# Altium footprint library MOLEX_0532610271.PcbLib: 1 footprints
Each footprint in its own frame and in the unit in brackets; x right, y up, seen from the top. Pads: shape width x height; smd on the part's side, far side on the other; paste and mask are expansions set on the pad; w line width, h text height; cw(c..) or ccw(c..) is an arc to the next point about the centre after c.
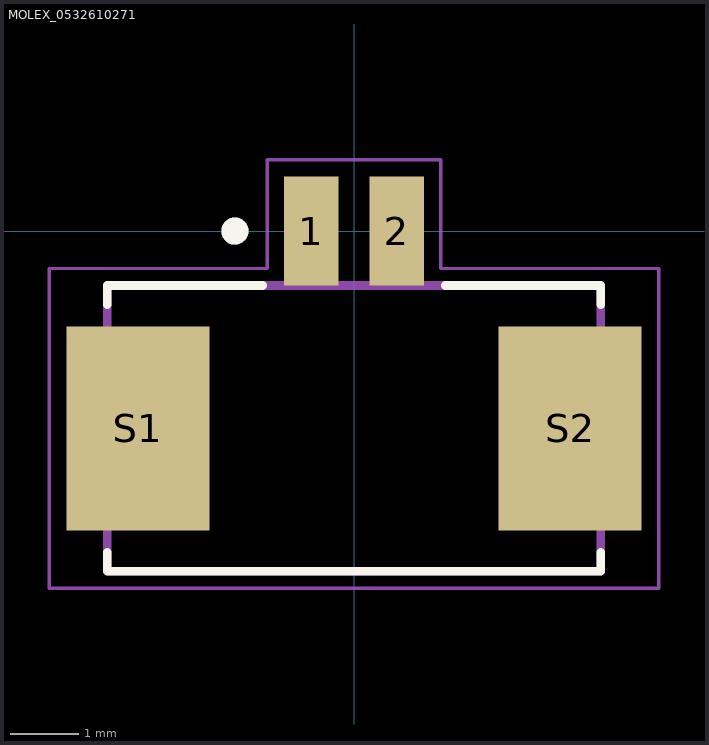
[diagram p0: the footprint, top view; thin cyan lines are the x and y axes]

## MOLEX_0532610271 [mm]
height 3.4
pads (4):
  rect 0.8x1.6 smd: 1(-0.625,0) 2(0.625,0)
  rect 2.1x3 smd: S1(-3.175,-2.9) S2(3.175,-2.9)
Top Overlay:
  circle w0.2: c-1.75,0 r0.1
  lines w0.127: -3.625,-4.72 -3.625,-5 3.625,-5 3.625,-4.72 ; -3.625,-1.08 -3.625,-0.8 -1.345,-0.8 ; 1.345,-0.8 3.625,-0.8 3.625,-1.08
Mechanical 13:
  circle w0.2: c-1.75,0 r0.1
  lines w0.127: -3.625,-5 3.625,-5 3.625,-0.8 -3.625,-0.8 -3.625,-5
Mechanical 15:
  lines w0.05: -4.475,-5.25 4.475,-5.25 4.475,-0.55 1.275,-0.55 1.275,1.05 -1.275,1.05 -1.275,-0.55 -4.475,-0.55 -4.475,-5.25